# Altium footprint library TSSOP16-SPE-TJA1081TS.PcbLib: 1 footprints
Each footprint in its own frame and in the unit in brackets; x right, y up, seen from the top. Pads: shape width x height; smd on the part's side, far side on the other; paste and mask are expansions set on the pad; w line width, h text height; cw(c..) or ccw(c..) is an arc to the next point about the centre after c.
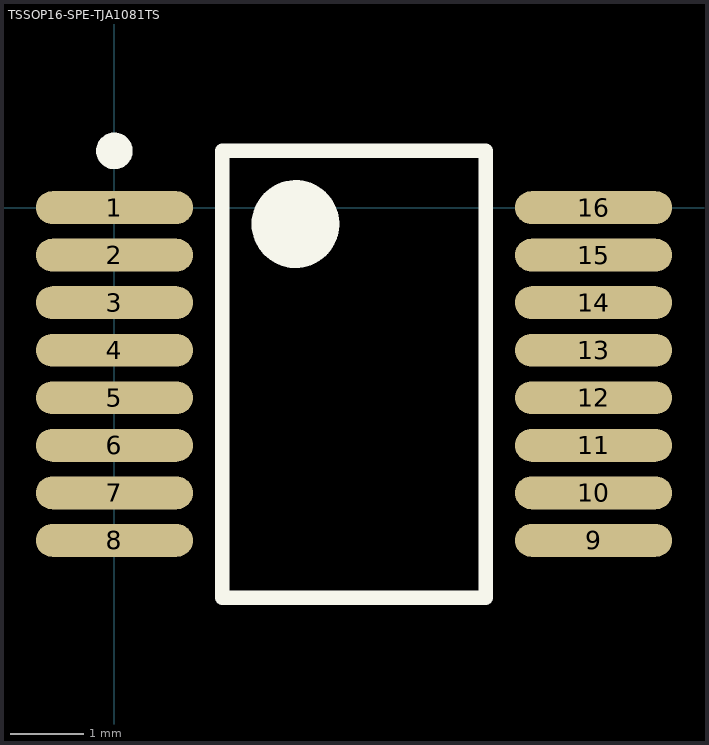
[diagram p0: the footprint, top view; thin cyan lines are the x and y axes]

## TSSOP16-SPE-TJA1081TS [mm]
height 2
pads (16):
  oval 2.15x0.45 smd: 1(0,0) 2(0,-0.65) 3(0,-1.3) 4(0,-1.95) 5(0,-2.6) 6(0,-3.25) 7(0,-3.9) 8(0,-4.55) 9(6.55,-4.55) 10(6.55,-3.9) 11(6.55,-3.25) 12(6.55,-2.6) 13(6.55,-1.95) 14(6.55,-1.3) 15(6.55,-0.65) 16(6.55,0)
Top Overlay:
  circle w0.25: c0,0.775 r0.125
  circle w0.6: c2.475,-0.225 r0.3
  lines w0.2: 1.475,-5.334 1.475,0.775 5.075,0.775 5.075,-5.334 1.475,-5.334
3D body: height 1.09, standoff 0, extent 0.111,-4.797 6.391,0.203